# EAGLE library part PIC24HJ12GP202 (library microchip-dspic)
PIC24H 12KB-ROM 1kB-RAM
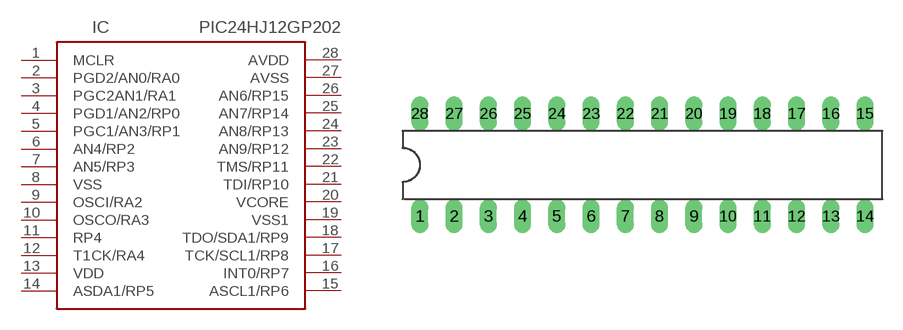
[diagram p27: symbol with the pads of DIL28-3; footprint DIL28-3]

Designator prefix IC

## PIC24HJ12GP202I/SP  [DIL28-3]
1  MCLR
2  PGD2/AN0/RA0
3  PGC2AN1/RA1
4  PGD1/AN2/RP0
5  PGC1/AN3/RP1
6  AN4/RP2
7  AN5/RP3
8  VSS
9  OSCI/RA2
10  OSCO/RA3
11  RP4
12  T1CK/RA4
13  VDD
14  ASDA1/RP5
15  ASCL1/RP6
16  INT0/RP7
17  TCK/SCL1/RP8
18  TDO/SDA1/RP9
19  VSS1
20  VCORE
21  TDI/RP10
22  TMS/RP11
23  AN9/RP12
24  AN8/RP13
25  AN7/RP14
26  AN6/RP15
27  AVSS
28  AVDD

## Footprint DIL28-3 (pad centres in mm)
Dual In Line package type P
drill 0.5 pad 1.27 long: 1 -16.51,-3.81; 2 -13.97,-3.81; 3 -11.43,-3.81; 4 -8.89,-3.81; 5 -6.35,-3.81; 6 -3.81,-3.81; 7 -1.27,-3.81; 8 1.27,-3.81; 9 3.81,-3.81; 10 6.35,-3.81; 11 8.89,-3.81; 12 11.43,-3.81; 13 13.97,-3.81; 14 16.51,-3.81; 15 16.51,3.81; 16 13.97,3.81; 17 11.43,3.81; 18 8.89,3.81; 19 6.35,3.81; 20 3.81,3.81; 21 1.27,3.81; 22 -1.27,3.81; 23 -3.81,3.81; 24 -6.35,3.81; 25 -8.89,3.81; 26 -11.43,3.81; 27 -13.97,3.81; 28 -16.51,3.81